# Altium schematic symbol library Smart_Switch_PCB_Project.SCHLIB: 17 symbols
Pins are listed as number, name and electrical type; pins without a type are passive.

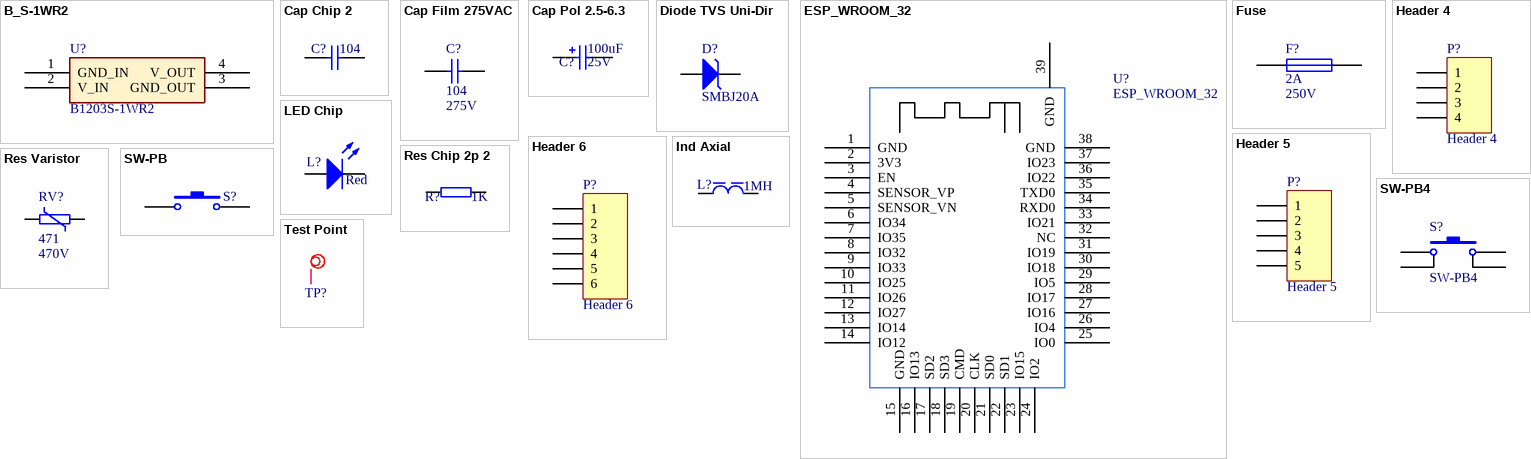
[diagram p0: symbols B_S-1WR2 to Test Point]

## B_S-1WR2
designator U?, comment B1203S-1WR2
footprint B_S-1WR2 (12v 3.3v dc 1w)
pins: 1 GND_IN, 2 V_IN, 3 GND_OUT, 4 V_OUT

## Cap Chip 2
designator C?, comment 104
Chip Capacitor, Silkscreen Border; Voltage: 63V; Tolerance: Y5V; Published: 8-Jun-2000; Revision: July-2002: Re-released for DXP Platform.; Publisher: Altium Limited; Price(RMB): 0.000; Value: 104
footprint CAPC1005[0402]S (Chip Capacitor,Silkscreen border, 2-Leads, Body 1.00x0.50mm, IPC Medium Density)
footprint CAPC1310[0504]S (Chip Capacitor, 2-Leads, Body 1.17x1.02mm, IPC Medium Density)
footprint CAPC1608[0603]S (Chip Capacitor,Silkscreen Border,2-Leads, Body 1.60x0.80mm, IPC Medium Density)
footprint CAPC2012[0805]S (Chip Capacitor,Silkscreen Border, 2-Leads, Body 2.00x1.25mm, IPC Medium Density)
footprint CAPC3216[1206]S (Chip Capacitor, Silkscreen Border,2-Leads, Body 3.20x1.60mm, IPC Medium Density)
footprint CAPC3225[1210]S (Chip Capacitor,Silkscreen Border, 2-Leads, Body 3.20x2.50mm, IPC Medium Density)
footprint CAPC4532[1812]S (Chip Capacitor, Silkscreen Border,2-Leads, Body 4.50x3.20mm, IPC Medium Density)
footprint CAPC4564[1825]S (Chip Capacitor,Silkscreen Border, 2-Leads, Body 4.50x6.40mm, IPC Medium Density)
pins: 1, 2

## Cap Film 275VAC
designator C?, comment Voltage: 275V  (hidden comment: 104)
Film Capacitor; Published: 8-Jun-2000; Revision: July-2002: Re-released for DXP Platform.; Publisher: Altium Limited; Price(RMB): 0.000; Value: 104
footprint MPF131006 (Metallized Polypropylene Film Capacitor)
footprint MPF261910 (Metallized Polypropylene Film Capacitor)
footprint MPF322011 (Metallized Polypropylene Film Capacitor)
pins: 1, 2

## Cap Pol 2.5-6.3
designator C?, comment Voltage: 25V  (hidden comment: 100uF)
Polarized Capacitor (Radial); Published: 8-Jun-2000; Revision: July-2002: Re-released for DXP Platform.; Publisher: Altium Limited; Price(RMB): 0.000; Value: 100uF
footprint CAPPR2.5-6.3X11
footprint CAPPR2.5-6.3X5
footprint CAPPR2.5-6.3X6.8
footprint CAPPR2.5-6.3X7
footprint CAPPR2.5-6.3X9.8
footprint CAPPR2.5-6.3X11.5
footprint CAPPR2.5-6.3X15
footprint CAPPR2.5-6.3X5/h.9
footprint CAPPR2.5-6.3X6.8/h.9
pins: 1, 2

## Diode TVS Uni-Dir
designator D?, comment SMBJ20A
TRANSIENT VOLTAGE  SUPPRESSOR DIODE; Imax: 500mA; Published: 8-Jun-2000; Publisher: Altium Limited; Price(RMB): 0.000; PartNumber: SMBJ20A
footprint DO-41 (Diode,Axial;8.30mm C X 0.70mm W 4.60mm L X 2.40mm Dia)
footprint SMA[DO-214AC] (Molded Diode, 2-Leads, Body 5.00x2.49mm, IPC Medium Density)
footprint SMB[DO-214AA] (Molded Diode, 2-Leads, Body 5.30x3.55mm, IPC Medium Density)
footprint SMC[DO-214AB] (Molded Diode, 2-Leads, Body 7.94x5.90mm, IPC Medium Density)
pins: A, K

## ESP_WROOM_32
designator U?
footprint ESP32
pins: 1 GND, 2 3V3, 3 EN, 4 SENSOR_VP, 5 SENSOR_VN, 6 IO34, 7 IO35, 8 IO32, 9 IO33, 10 IO25, 11 IO26, 12 IO27, 13 IO14, 14 IO12, 15 GND, 16 IO13, 17 SD2, 18 SD3, 19 CMD, 20 CLK, 21 SD0, 22 SD1, 23 IO15, 24 IO2, 25 IO0, 26 IO4, 27 IO16, 28 IO17, 29 IO5, 30 IO18, 31 IO19, 32 NC, 33 IO21, 34 RXD0, 35 TXD0, 36 IO22, 37 IO23, 38 GND, 39 GND

## Fuse
designator F?  Imax: 2A  Voltage: 250V
Fuse; Published: 8-Jun-2000; Revision: July-2002: Re-released for DXP Platform.; Publisher: Altium Limited; Price(RMB): 0.000
footprint FUSE
footprint FUSE-15MM
footprint FUSE-30MM
footprint FUSE-L
pins: 1, 2

## Header 4
designator P?
Header, 4-Pin; LatestRevisionDate: 17-Jul-2002; LatestRevisionNote: Re-released for DXP Platform.; Publisher: Altium Limited; Price(RMB): 0.00
footprint HDR1X4 (Connector; Header; 4 Position)
signal-integrity model Connector
footprint HX2.54-4
footprint HX2.54V-4
footprint HX3.96-4
footprint HX5.08-4L
pins: 1, 2, 3, 4

## Header 5
designator P?
Header, 5-Pin; LatestRevisionDate: 17-Jul-2002; LatestRevisionNote: Re-released for DXP Platform.; Publisher: Altium Limited; Price(RMB): 0.00
footprint HDR1X5 (Connector; Header; 5 Position)
signal-integrity model Connector
footprint HX2.54-5
footprint HX3.96-5
footprint AC-DC 12V 3W (GODSEND UA3)
pins: 1, 2, 3, 4, 5

## Header 6
designator P?
Header, 6-Pin; LatestRevisionDate: 17-Jul-2002; LatestRevisionNote: Re-released for DXP Platform.; Publisher: Altium Limited; Price(RMB): 0.00
footprint HDR1X6 (Connector; Header; 6 Position)
signal-integrity model Connector
footprint HX2.54-6
footprint HX3.96-6
footprint header 6 1.27mm
pins: 1, 2, 3, 4, 5, 6

## Ind Axial
designator L?, comment 1MH
Discrete Inductor, Ferrite-Core; Value: 100uH; Imax: 500mA; DCR: .1m; Revision: July-2002: Re-released for DXP Platform.; Publisher: Altium Limited; Published: 8-Jun-2000; Price(RMB): 0.000
footprint LGA0204
footprint LGA0305
footprint LGA0307
footprint LGA0410
footprint LGA0510
footprint FUSE-L
pins: 1, 2

## LED Chip
designator L?, comment Red
Typical Chip LED; Published: 8-Jun-2000; Revision: July-2002: Re-released for DXP Platform.; Publisher: Altium Limited; Price(RMB): 0.00; Color: Red
footprint LEDC1608(0603) (LED,Chip;1.60mm L X 0.80mm W X 0.80mm H)
footprint LEDC2012(0805) (LED,Chip;2.00mm L X 1.25mm W X 1.20mm H)
footprint LEDC3216(1206) (LED,Chip;3.20mm L X 1.60mm W X 1.30mm H)
pins: A, C

## Res Chip 2p 2
designator R?, comment 1K
Chip Resistor, Border Silkscreen On PCB Library; Tolerance: 5%; Published: 8-Jun-2000; Revision: July-2002: Re-released for DXP Platform.; Publisher: Altium Limited; Price(RMB): 0.000; Value: 1K
footprint RESC1005[0402]S (Silkscreen Outside, Chip Resistor, 2-Leads, Body 1.05x0.54mm, IPC Medium Density)
footprint RESC1608[0603]S (Silkscreen Outside, Chip Resistor, 2-Leads, Body 1.60x0.82mm, IPC Medium Density)
footprint RESC2012[0805]S (Silkscreen Outside, Chip Resistor, 2-Leads, Body 2.00x1.25mm, IPC Medium Density)
footprint RESC3216[1206]S (Silkscreen Outside, Chip Resistor, 2-Leads, Body 3.20x1.60mm, IPC Medium Density)
footprint RESC3225[1210]S (Silkscreen Outside, Chip Resistor, 2-Leads, Body 3.20x2.49mm, IPC Medium Density)
footprint RESC5025[2010]S (Silkscreen Outside, Chip Resistor, 2-Leads, Body 5.00x2.50mm, IPC Medium Density)
footprint RESC6332[2512]S (Silkscreen Outside, Chip Resistor, 2-Leads, Body 6.30x3.20mm, IPC Medium Density)
pins: 1, 2
1 alternate drawing of the same symbol

## Res Varistor
designator RV?, comment 471  Voltage: 470V
Voltage Sense Resistor; Value: 472; Published: 24-Mar-1999; Revision: July-2002: Re-released for DXP Platform.; Publisher: Altium Limited; Price(RMB): 0.000
footprint RESKINK-E5W7 (Kinked Leads, 5mm pitch, 7mm diameter)
footprint RESKINK-E5W9 (Kinked Leads, 5mm pitch, 9mm diameter)
footprint RESKINK-E10W215 (Kinked Leads, 10mm pitch, 21.5mm diameter)
footprint RESKINK-E75W12 (Kinked Leads, 7.5mm pitch, 12mm diameter)
footprint RESKINK-E75W155 (Kinked Leads, 7.5mm pitch, 15.5mm diameter)
pins: 1, 2

## SW-PB
designator S?  (value not drawn)
Switch; Published: 24-Mar-1999; Revision: July-2002: Re-released for DXP Platform.; Publisher: Altium Limited; Price(RMB): 0.000
footprint KEY-pad (Footprint not found)
footprint button
pins: 1, 2

## SW-PB4
designator S?
微动开关; Published: 24-Mar-1999; LatestRevisionDate: 17-Jul-2002; LatestRevisionNote: Re-released for DXP Platform.; PackageReference: SPST-2; Publisher: Altium Limited
footprint SW_PB4_A1
pins: 1, 2, 3, 4

## Test Point
designator TP?  (value not drawn)  (no BOM)
Test Point for Manufature; Price(RMB): 0.000
footprint TESTPOINT (Test Point, 2mm Diameter, 0.5mm Thru Hole)
footprint TESTPOINT_PAD_1 (Pad type Test Point, 1mm)
footprint TESTPOINT_PAD_2 (Pad type Test Point, 2mm)
footprint TESTPOINT_PAD_3 (Pad type Test Point, 3mm)
pins: 1 TP